# EAGLE library part 6120XX235121_612006235121 (library Eagle_WR-BHD (rev21a))
WR-BHD 2.54 mm Male Box Header High Temperature KIND PROPERTIES: Pitch 2.54 mm Gender:Male MATERIAL PROPERTIES: Insulator Material:PA6T Insulator Flammability Rating UL94 V-0 Insulator Color:Black Contact Material :Copper Alloy Contact Plating :Gold Contact Type: Stamped GENERAL INFORMATION: Operating Temperature:-40 °C up to +125 °C Compliance:RoHS Working Voltage: 250 V (AC) Withstanding Voltage:500 V (AC) Contact Resistance: 20 mΩ Insulation Resistance:1000 MΩ PACKAGING PROPERTIES Packaging :Tray <https://www.we-online.com/catalog/media/o32904v209%20Family_WR-BHD_6120xx235121.jpg> Details see: https://www.we-online.com/catalog/en/BHD_2_54_MALE_BOX_HEADER_HIGH_TEMPERATURE_6120XX235121 Updated by Ella Wu 2021-03-12 2021 (C) Würth Elektronik
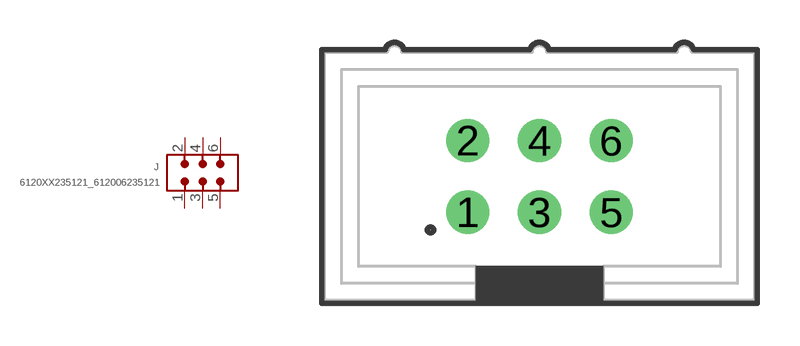
[diagram p140: symbol with the pads of 612006235121; footprint 612006235121]

Designator prefix J

## 6120XX235121_612006235121 (CONTACT-RESISTANCE: 20mOhm; DATASHEET-URL: https://www.we-online.com/catalog/datasheet/612006235121.pdf; GENDER: Male; IR: 3A; L: 15.2mm; MOUNT: THT; PACKAGING: Tray; PART-NUMBER: 612006235121; PINS: 6; PITCH: 2.54mm; TYPE: Straight; VALUE: 612006235121; WORKING-VOLTAGE: 250V(AC))  [612006235121]
1  1  pas
2  2  pas
3  3  pas
4  4  pas
5  5  pas
6  6  pas

## Footprint 612006235121 (pad centres in mm)
WR-BHD 2.54 mm Male Box Header High Temperature, 6 Pins
drill 1.02: 1 -2.54,-1.27; 2 -2.54,1.27; 3 0,-1.27; 4 0,1.27; 5 2.54,-1.27; 6 2.54,1.27